# Altium schematic symbol library ICs-SupervisoryCircuits.SchLib: 2 symbols
Pins are listed as number, name and electrical type; pins without a type are passive.

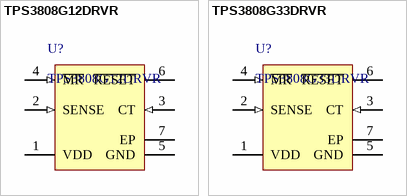
[diagram p0: symbols TPS3808G12DRVR to TPS3808G33DRVR]

## TPS3808G12DRVR
designator U?
Manufacturer: Texas Instruments; PackageReference: WSON-6; Mounting Technology: Surface Mount; PartNumber: TPS3808G12DRVR
footprint WSON-6 (SON, 6-Leads, Body 2x2mm, Pitch 0.65mm, Thermal Pad 1.6x1mm, TI Recommended)
pins: 1 VDD (power) "Supply voltage. It is good analog design practice to place a 0.1µF ceramic capacitor close to this pin.", 2 SENSE (in) "This pin is connected to the voltage to be monitored. If the voltage at this terminal drops below the threshold voltage VIT, then R\E\S\E\T\ is asserted.", 3 CT (in) "Reset period programming pin. Connecting this pin to VDD through a 40kohm to 200kohm resistor or leaving it open results in fixed delay times (see Electrical Characteristics). Connecting this pin to a ground reference (See Datasheet)", 4 ~{MR} (in) "Driving the manual reset pin (M\R\) low asserts R\E\S\E\T\. MR is internally tied to VDD by a 90k ohm pull-up resistor.", 5 GND (power) "Ground", 6 ~{RESET} (hiz) "R\E\S\E\T\ is an open-drain output that is driven to a low impedance state when R\E\S\E\T\ is asserted (either the SENSE input is lower than the threshold voltage (VIT) or the M\R\ pin is set to a logic low). R\E\S\E\T\ will (See Datasheet)", 7 EP (power) "PowerPAD. Connect to ground plane to enhance thermal performance of package"

## TPS3808G33DRVR
designator U?
IC VOLT SUPERVISOR 3.3V; Manufacturer: Texas Instruments; PackageReference: WSON-6; Mounting Technology: Surface Mount; PartNumber: TPS3808G33DRVR
footprint WSON-6 (SON, 6-Leads, Body 2x2mm, Pitch 0.65mm, Thermal Pad 1.6x1mm, TI Recommended)
pins: 1 VDD (power) "Supply voltage. It is good analog design practice to place a 0.1µF ceramic capacitor close to this pin.", 2 SENSE (in) "This pin is connected to the voltage to be monitored. If the voltage at this terminal drops below the threshold voltage VIT, then R\E\S\E\T\ is asserted.", 3 CT (in) "Reset period programming pin. Connecting this pin to VDD through a 40kohm to 200kohm resistor or leaving it open results in fixed delay times (see Electrical Characteristics). Connecting this pin to a ground reference (See Datasheet)", 4 ~{MR} (in) "Driving the manual reset pin (M\R\) low asserts R\E\S\E\T\. MR is internally tied to VDD by a 90k ohm pull-up resistor.", 5 GND (power) "Ground", 6 ~{RESET} (hiz) "R\E\S\E\T\ is an open-drain output that is driven to a low impedance state when R\E\S\E\T\ is asserted (either the SENSE input is lower than the threshold voltage (VIT) or the M\R\ pin is set to a logic low). R\E\S\E\T\ will (See Datasheet)", 7 EP (power) "PowerPAD. Connect to ground plane to enhance thermal performance of package"